# Altium schematic symbol library PA4343.682ANLT.SchLib: 1 symbol
Pins are listed as number, name and electrical type; pins without a type are passive.

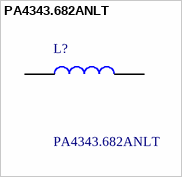
[diagram p0: symbol PA4343.682ANLT]

## PA4343.682ANLT
designator L?
PULSE ELECTRONICS - PA4343.682ANLT - INDUCTOR, SHIELDED, AEC-Q200, 6.8UH, 14A; Geometry.Height: 6.5mm; Mouser Part Number: 673-PA4343.682ANLT; Mouser Price/Stock: https://www.mouser.co.uk/ProductDetail/Pulse-Electronics/PA4343.682ANLT?qs=chTDxNqvsymdGvgwnDGbsw%3D%3D; Manufacturer_Name: PULSE; Manufacturer_Part_Number: PA4343.682ANLT; Datasheet Link: https://datasheet.datasheetarchive.com/originals/distributors/DKDS-10/182652.pdf
footprint INDPM135126X650N
pins: 1, 2